# EAGLE library part LCD3902 (library #PaJa_displeje)
LCD displej - 3 a 1/2 mistny, Lo Bat, znak 13mm
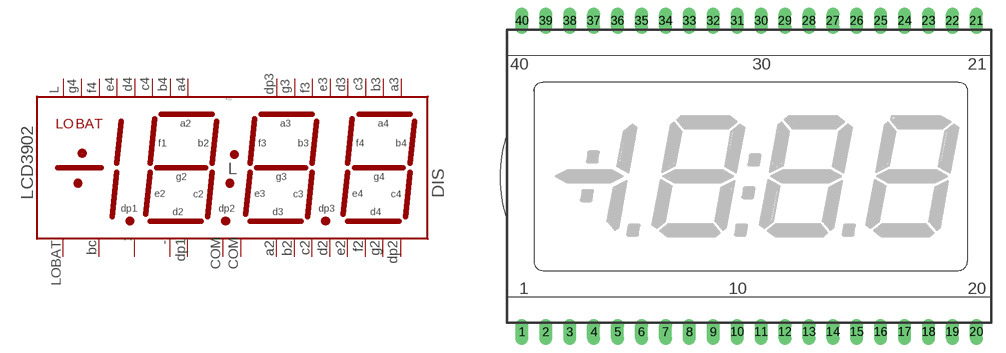
[diagram p13: symbol with the pads of LCD3902; footprint LCD3902]

Designator prefix DIS

## LCD3902  [LCD3902]
1  COM  pas
2  -  pas
3  BC  pas
8  DP3  pas
9  E4  pas
10  D4  pas
11  C4  pas
12  DP2  pas
13  E3  pas
14  D3  pas
15  C3  pas
16  DP1  pas
17  E2  pas
18  D2  pas
19  C2  pas
20  B2  pas
21  A2  pas
22  F2  pas
23  G2  pas
24  B3  pas
25  A3  pas
26  F3  pas
27  G3  pas
28  L  pas
29  B4  pas
30  A4  pas
31  F4  pas
32  G4  pas
38  LOBAT  pas
39  :  pas
40  COM2  pas

## Footprint LCD3902 (pad centres in mm)
LCD displej - 3 a 1/2 mistny
drill 0.813 pad 1.4 long: 1 -24.13,-16.51; 2 -21.59,-16.51; 3 -19.05,-16.51; 4 -16.51,-16.51; 5 -13.97,-16.51; 6 -11.43,-16.51; 7 -8.89,-16.51; 8 -6.35,-16.51; 9 -3.81,-16.51; 10 -1.27,-16.51; 11 1.27,-16.51; 12 3.81,-16.51; 13 6.35,-16.51; 14 8.89,-16.51; 15 11.43,-16.51; 16 13.97,-16.51; 17 16.51,-16.51; 18 19.05,-16.51; 19 21.59,-16.51; 20 24.13,-16.51; 21 24.13,16.51; 22 21.59,16.51; 23 19.05,16.51; 24 16.51,16.51; 25 13.97,16.51; 26 11.43,16.51; 27 8.89,16.51; 28 6.35,16.51; 29 3.81,16.51; 30 1.27,16.51; 31 -1.27,16.51; 32 -3.81,16.51; 33 -6.35,16.51; 34 -8.89,16.51; 35 -11.43,16.51; 36 -13.97,16.51; 37 -16.51,16.51; 38 -19.05,16.51; 39 -21.59,16.51; 40 -24.13,16.51